# EAGLE library part SN74LVC1G74 (library eagle-book)
Single Positive-Triggered D-Type Flip-flop with Clear and Preset
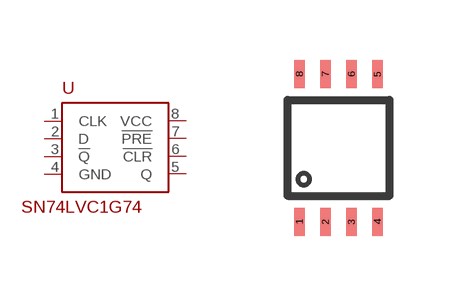
[diagram p12: symbol with the pads of R-PDSO-G8-G74; footprint R-PDSO-G8-G74]

Designator prefix U

## SN74LVC1G74DCT  [R-PDSO-G8-G74]
1  CLK
2  D
3  !Q
4  GND  pwr
5  Q
6  !CLR
7  !PRE
8  VCC  pwr

## Footprint R-PDSO-G8-G74 (pad centres in mm)
8-pin plastic small outline package
smd 0.26 x 0.7: 1 -0.975,-1.85; 2 -0.325,-1.85; 3 0.325,-1.85; 4 0.975,-1.85; 5 0.975,1.85; 6 0.325,1.85; 7 -0.325,1.85; 8 -0.975,1.85